# EAGLE library part TPS7A1601AQDGNRQ1 (library ruark2)
Linear Voltage Regulator IC Positive Adjustable 60V 1 Output 100mA 8-HVSSOP
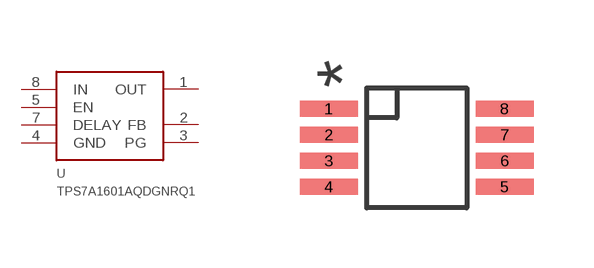
[diagram p192: symbol with the pads of MSOP-8; footprint MSOP-8]

Designator prefix U

## TPS7A1601AQDGNRQ1  [MSOP-8]
1  OUT
2  FB
3  PG
4  GND
5  EN
7  DELAY
8  IN

## Footprint MSOP-8 (pad centres in mm)
smd 1.45 x 0.4: 1 -2.2,0.975; 2 -2.2,0.325; 3 -2.2,-0.325; 4 -2.2,-0.975; 5 2.2,-0.975; 6 2.2,-0.325; 7 2.2,0.325; 8 2.2,0.975